# Altium schematic symbol library Key4415.SchLib: 1 symbol
Pins are listed as number, name and electrical type; pins without a type are passive.

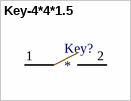
[diagram p0: symbol Key-4*4*1.5]

## Key-4*4*1.5
designator Key?
footprint Key-4*4*1.5
pins: 1, 2